# Altium footprint library IPC-SM-782 Section 11.3 SQFP_QFP-Rectangular.PcbLib: 50 footprints (part 2 of 4)
Each footprint in its own frame and in the unit in brackets; x right, y up, seen from the top. Pads: shape width x height; smd on the part's side, far side on the other; paste and mask are expansions set on the pad; w line width, h text height; cw(c..) or ccw(c..) is an arc to the next point about the centre after c.
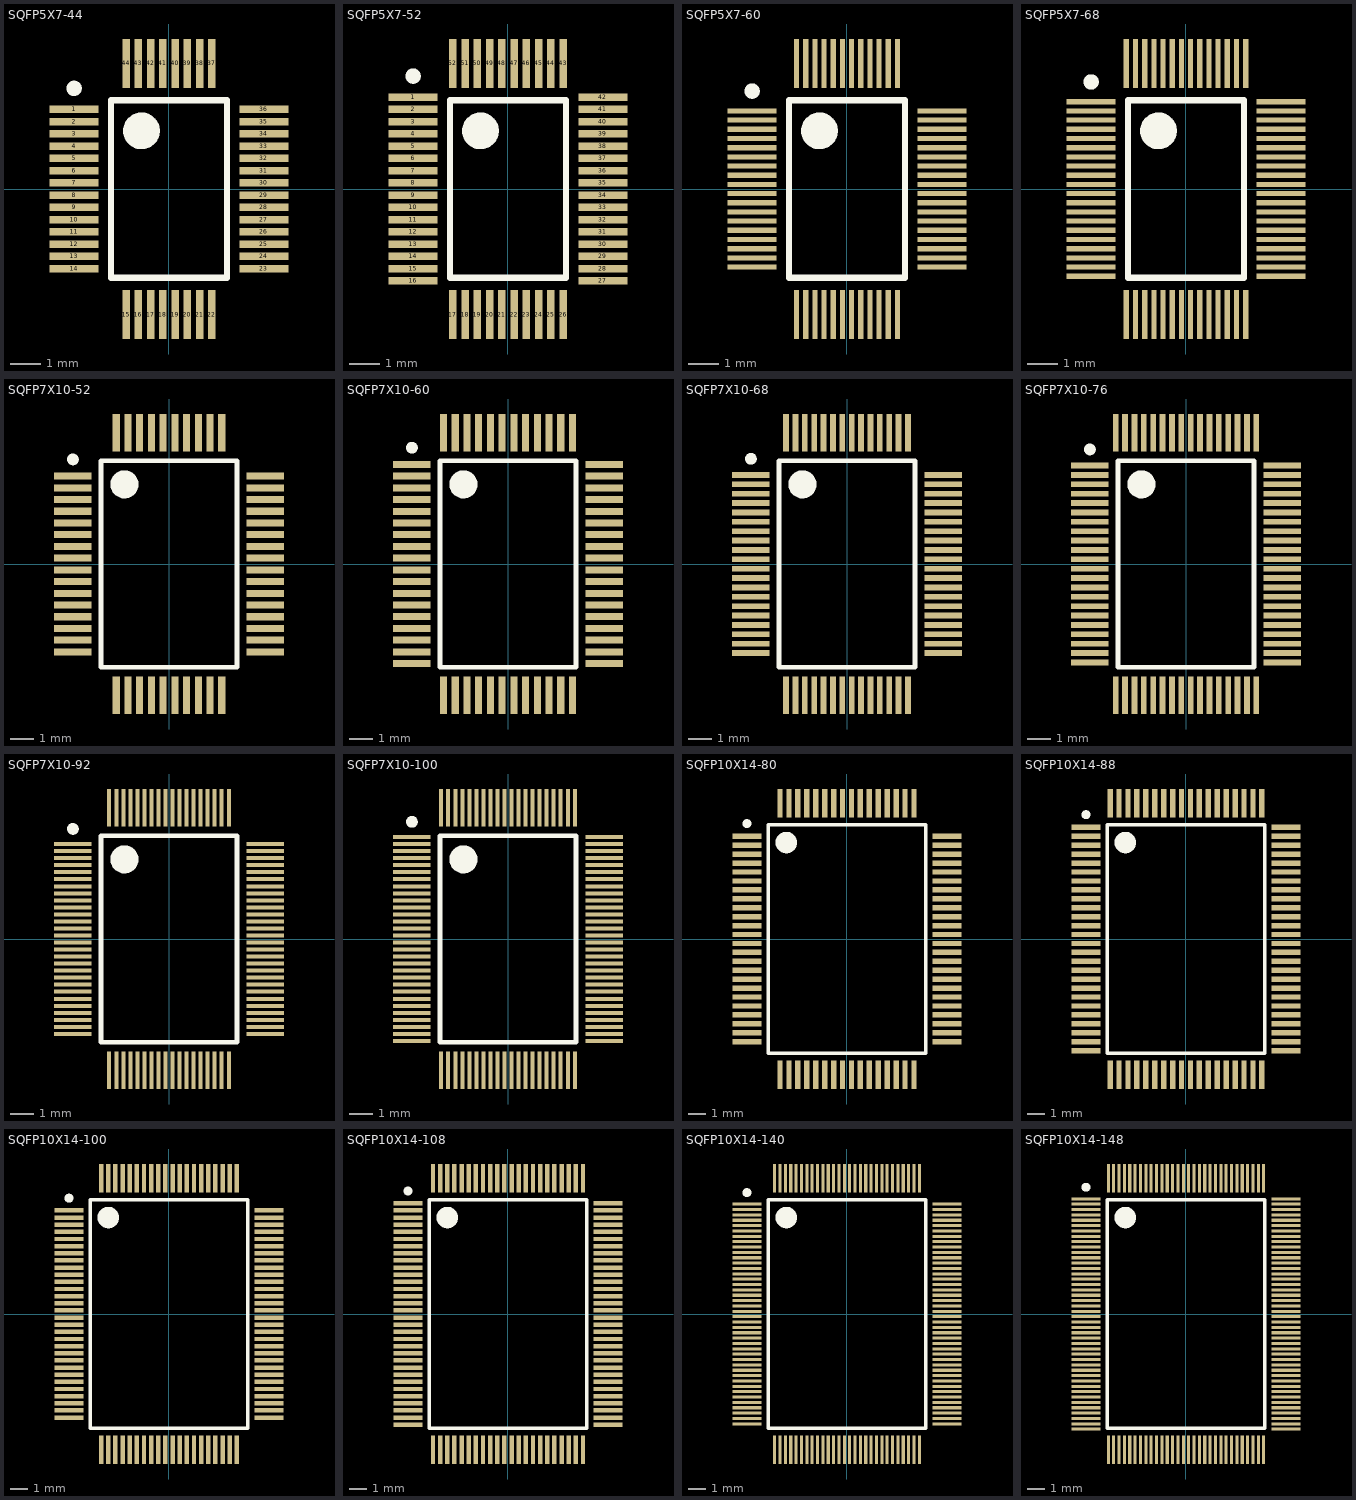
[diagram p1: the footprints below, top view; thin cyan lines are the x and y axes]

## SQFP5X7-44 [mm] "QFP; 44 Leads; Body 5 x 7 mm; Pitch 0.4 mm"
height 1.7
pads (44):
  rect 1.6x0.25 smd: 1(-3.1,2.6) 2(-3.1,2.2) 3(-3.1,1.8) 4(-3.1,1.4) 5(-3.1,1) 6(-3.1,0.6) 7(-3.1,0.2) 8(-3.1,-0.2) 9(-3.1,-0.6) 10(-3.1,-1) 11(-3.1,-1.4) 12(-3.1,-1.8) 13(-3.1,-2.2) 14(-3.1,-2.6) 23(3.1,-2.6) 24(3.1,-2.2) 25(3.1,-1.8) 26(3.1,-1.4) 27(3.1,-1) 28(3.1,-0.6) 29(3.1,-0.2) 30(3.1,0.2) 31(3.1,0.6) 32(3.1,1) 33(3.1,1.4) 34(3.1,1.8) 35(3.1,2.2) 36(3.1,2.6)
  rect 0.25x1.6 smd: 15(-1.4,-4.1) 16(-1,-4.1) 17(-0.6,-4.1) 18(-0.2,-4.1) 19(0.2,-4.1) 20(0.6,-4.1) 21(1,-4.1) 22(1.4,-4.1) 37(1.4,4.1) 38(1,4.1) 39(0.6,4.1) 40(0.2,4.1) 41(-0.2,4.1) 42(-0.6,4.1) 43(-1,4.1) 44(-1.4,4.1)
Top Overlay:
  circle w0.25: c-3.1,3.287 r0.125
  circle w0.6: c-0.9,1.9 r0.3
  lines w0.2: -1.9,-2.9 1.9,-2.9 1.9,2.9 -1.9,2.9 -1.9,-2.9

## SQFP5X7-52 [mm] "QFP; 52 Leads; Body 5 x 7 mm; Pitch 0.4 mm"
height 1.7
pads (52):
  rect 1.6x0.25 smd: 1(-3.1,3) 2(-3.1,2.6) 3(-3.1,2.2) 4(-3.1,1.8) 5(-3.1,1.4) 6(-3.1,1) 7(-3.1,0.6) 8(-3.1,0.2) 9(-3.1,-0.2) 10(-3.1,-0.6) 11(-3.1,-1) 12(-3.1,-1.4) 13(-3.1,-1.8) 14(-3.1,-2.2) 15(-3.1,-2.6) 16(-3.1,-3) 27(3.1,-3) 28(3.1,-2.6) 29(3.1,-2.2) 30(3.1,-1.8) 31(3.1,-1.4) 32(3.1,-1) 33(3.1,-0.6) 34(3.1,-0.2) 35(3.1,0.2) 36(3.1,0.6) 37(3.1,1) 38(3.1,1.4) 39(3.1,1.8) 40(3.1,2.2) 41(3.1,2.6) 42(3.1,3)
  rect 0.25x1.6 smd: 17(-1.8,-4.1) 18(-1.4,-4.1) 19(-1,-4.1) 20(-0.6,-4.1) 21(-0.2,-4.1) 22(0.2,-4.1) 23(0.6,-4.1) 24(1,-4.1) 25(1.4,-4.1) 26(1.8,-4.1) 43(1.8,4.1) 44(1.4,4.1) 45(1,4.1) 46(0.6,4.1) 47(0.2,4.1) 48(-0.2,4.1) 49(-0.6,4.1) 50(-1,4.1) 51(-1.4,4.1) 52(-1.8,4.1)
Top Overlay:
  circle w0.6: c-0.9,1.9 r0.3
  circle w0.25: c-3.1,3.688 r0.125
  lines w0.2: -1.9,-2.9 -1.9,2.9 1.9,2.9 1.9,-2.9 -1.9,-2.9

## SQFP5X7-60 [mm] "QFP; 60 Leads; Body 5 x 7 mm; Pitch 0.3 mm"
height 1.7
pads (60):
  rect 1.6x0.17 smd: 1(-3.1,2.55) 2(-3.1,2.25) 3(-3.1,1.95) 4(-3.1,1.65) 5(-3.1,1.35) 6(-3.1,1.05) 7(-3.1,0.75) 8(-3.1,0.45) 9(-3.1,0.15) 10(-3.1,-0.15) 11(-3.1,-0.45) 12(-3.1,-0.75) 13(-3.1,-1.05) 14(-3.1,-1.35) 15(-3.1,-1.65) 16(-3.1,-1.95) 17(-3.1,-2.25) 18(-3.1,-2.55) 31(3.1,-2.55) 32(3.1,-2.25) 33(3.1,-1.95) 34(3.1,-1.65) 35(3.1,-1.35) 36(3.1,-1.05) 37(3.1,-0.75) 38(3.1,-0.45) 39(3.1,-0.15) 40(3.1,0.15) 41(3.1,0.45) 42(3.1,0.75) 43(3.1,1.05) 44(3.1,1.35) 45(3.1,1.65) 46(3.1,1.95) 47(3.1,2.25) 48(3.1,2.55)
  rect 0.17x1.6 smd: 19(-1.65,-4.1) 20(-1.35,-4.1) 21(-1.05,-4.1) 22(-0.75,-4.1) 23(-0.45,-4.1) 24(-0.15,-4.1) 25(0.15,-4.1) 26(0.45,-4.1) 27(0.75,-4.1) 28(1.05,-4.1) 29(1.35,-4.1) 30(1.65,-4.1) 49(1.65,4.1) 50(1.35,4.1) 51(1.05,4.1) 52(0.75,4.1) 53(0.45,4.1) 54(0.15,4.1) 55(-0.15,4.1) 56(-0.45,4.1) 57(-0.75,4.1) 58(-1.05,4.1) 59(-1.35,4.1) 60(-1.65,4.1)
Top Overlay:
  circle w0.6: c-0.9,1.9 r0.3
  circle w0.25: c-3.1,3.197 r0.125
  lines w0.2: -1.9,-2.9 -1.9,2.9 1.9,2.9 1.9,-2.9 -1.9,-2.9

## SQFP5X7-68 [mm] "QFP; 68 Leads; Body 5 x 7 mm; Pitch 0.3 mm"
height 1.7
pads (68):
  rect 1.6x0.17 smd: 1(-3.1,2.85) 2(-3.1,2.55) 3(-3.1,2.25) 4(-3.1,1.95) 5(-3.1,1.65) 6(-3.1,1.35) 7(-3.1,1.05) 8(-3.1,0.75) 9(-3.1,0.45) 10(-3.1,0.15) 11(-3.1,-0.15) 12(-3.1,-0.45) 13(-3.1,-0.75) 14(-3.1,-1.05) 15(-3.1,-1.35) 16(-3.1,-1.65) 17(-3.1,-1.95) 18(-3.1,-2.25) 19(-3.1,-2.55) 20(-3.1,-2.85) 35(3.1,-2.85) 36(3.1,-2.55) 37(3.1,-2.25) 38(3.1,-1.95) 39(3.1,-1.65) 40(3.1,-1.35) 41(3.1,-1.05) 42(3.1,-0.75) 43(3.1,-0.45) 44(3.1,-0.15) 45(3.1,0.15) 46(3.1,0.45) 47(3.1,0.75) 48(3.1,1.05) 49(3.1,1.35) 50(3.1,1.65) 51(3.1,1.95) 52(3.1,2.25) 53(3.1,2.55) 54(3.1,2.85)
  rect 0.17x1.6 smd: 21(-1.95,-4.1) 22(-1.65,-4.1) 23(-1.35,-4.1) 24(-1.05,-4.1) 25(-0.75,-4.1) 26(-0.45,-4.1) 27(-0.15,-4.1) 28(0.15,-4.1) 29(0.45,-4.1) 30(0.75,-4.1) 31(1.05,-4.1) 32(1.35,-4.1) 33(1.65,-4.1) 34(1.95,-4.1) 55(1.95,4.1) 56(1.65,4.1) 57(1.35,4.1) 58(1.05,4.1) 59(0.75,4.1) 60(0.45,4.1) 61(0.15,4.1) 62(-0.15,4.1) 63(-0.45,4.1) 64(-0.75,4.1) 65(-1.05,4.1) 66(-1.35,4.1) 67(-1.65,4.1) 68(-1.95,4.1)
Top Overlay:
  circle w0.6: c-0.9,1.9 r0.3
  circle w0.25: c-3.1,3.497 r0.125
  lines w0.2: -1.9,-2.9 -1.9,2.9 1.9,2.9 1.9,-2.9 -1.9,-2.9

## SQFP7X10-52 [mm] "QFP; 52 Leads; Body 7 x 10 mm; Pitch 0.5 mm"
height 2.2
pads (52):
  rect 1.6x0.3 smd: 1(-4.1,3.75) 2(-4.1,3.25) 3(-4.1,2.75) 4(-4.1,2.25) 5(-4.1,1.75) 6(-4.1,1.25) 7(-4.1,0.75) 8(-4.1,0.25) 9(-4.1,-0.25) 10(-4.1,-0.75) 11(-4.1,-1.25) 12(-4.1,-1.75) 13(-4.1,-2.25) 14(-4.1,-2.75) 15(-4.1,-3.25) 16(-4.1,-3.75) 27(4.1,-3.75) 28(4.1,-3.25) 29(4.1,-2.75) 30(4.1,-2.25) 31(4.1,-1.75) 32(4.1,-1.25) 33(4.1,-0.75) 34(4.1,-0.25) 35(4.1,0.25) 36(4.1,0.75) 37(4.1,1.25) 38(4.1,1.75) 39(4.1,2.25) 40(4.1,2.75) 41(4.1,3.25) 42(4.1,3.75)
  rect 0.3x1.6 smd: 17(-2.25,-5.6) 18(-1.75,-5.6) 19(-1.25,-5.6) 20(-0.75,-5.6) 21(-0.25,-5.6) 22(0.25,-5.6) 23(0.75,-5.6) 24(1.25,-5.6) 25(1.75,-5.6) 26(2.25,-5.6) 43(2.25,5.6) 44(1.75,5.6) 45(1.25,5.6) 46(0.75,5.6) 47(0.25,5.6) 48(-0.25,5.6) 49(-0.75,5.6) 50(-1.25,5.6) 51(-1.75,5.6) 52(-2.25,5.6)
Top Overlay:
  circle w0.25: c-4.1,4.463 r0.125
  circle w0.6: c-1.9,3.4 r0.3
  lines w0.2: -2.9,-4.4 2.9,-4.4 2.9,4.4 -2.9,4.4 -2.9,-4.4

## SQFP7X10-60 [mm] "QFP; 60 Leads; Body 7 x 10 mm; Pitch 0.5 mm"
height 2.2
pads (60):
  rect 1.6x0.3 smd: 1(-4.1,4.25) 2(-4.1,3.75) 3(-4.1,3.25) 4(-4.1,2.75) 5(-4.1,2.25) 6(-4.1,1.75) 7(-4.1,1.25) 8(-4.1,0.75) 9(-4.1,0.25) 10(-4.1,-0.25) 11(-4.1,-0.75) 12(-4.1,-1.25) 13(-4.1,-1.75) 14(-4.1,-2.25) 15(-4.1,-2.75) 16(-4.1,-3.25) 17(-4.1,-3.75) 18(-4.1,-4.25) 31(4.1,-4.25) 32(4.1,-3.75) 33(4.1,-3.25) 34(4.1,-2.75) 35(4.1,-2.25) 36(4.1,-1.75) 37(4.1,-1.25) 38(4.1,-0.75) 39(4.1,-0.25) 40(4.1,0.25) 41(4.1,0.75) 42(4.1,1.25) 43(4.1,1.75) 44(4.1,2.25) 45(4.1,2.75) 46(4.1,3.25) 47(4.1,3.75) 48(4.1,4.25)
  rect 0.3x1.6 smd: 19(-2.75,-5.6) 20(-2.25,-5.6) 21(-1.75,-5.6) 22(-1.25,-5.6) 23(-0.75,-5.6) 24(-0.25,-5.6) 25(0.25,-5.6) 26(0.75,-5.6) 27(1.25,-5.6) 28(1.75,-5.6) 29(2.25,-5.6) 30(2.75,-5.6) 49(2.75,5.6) 50(2.25,5.6) 51(1.75,5.6) 52(1.25,5.6) 53(0.75,5.6) 54(0.25,5.6) 55(-0.25,5.6) 56(-0.75,5.6) 57(-1.25,5.6) 58(-1.75,5.6) 59(-2.25,5.6) 60(-2.75,5.6)
Top Overlay:
  circle w0.6: c-1.9,3.4 r0.3
  circle w0.25: c-4.1,4.963 r0.125
  lines w0.2: -2.9,-4.4 -2.9,4.4 2.9,4.4 2.9,-4.4 -2.9,-4.4

## SQFP7X10-68 [mm] "QFP; 68 Leads; Body 7 x 10 mm; Pitch 0.4 mm"
height 2.2
pads (68):
  rect 1.6x0.25 smd: 1(-4.1,3.8) 2(-4.1,3.4) 3(-4.1,3) 4(-4.1,2.6) 5(-4.1,2.2) 6(-4.1,1.8) 7(-4.1,1.4) 8(-4.1,1) 9(-4.1,0.6) 10(-4.1,0.2) 11(-4.1,-0.2) 12(-4.1,-0.6) 13(-4.1,-1) 14(-4.1,-1.4) 15(-4.1,-1.8) 16(-4.1,-2.2) 17(-4.1,-2.6) 18(-4.1,-3) 19(-4.1,-3.4) 20(-4.1,-3.8) 35(4.1,-3.8) 36(4.1,-3.4) 37(4.1,-3) 38(4.1,-2.6) 39(4.1,-2.2) 40(4.1,-1.8) 41(4.1,-1.4) 42(4.1,-1) 43(4.1,-0.6) 44(4.1,-0.2) 45(4.1,0.2) 46(4.1,0.6) 47(4.1,1) 48(4.1,1.4) 49(4.1,1.8) 50(4.1,2.2) 51(4.1,2.6) 52(4.1,3) 53(4.1,3.4) 54(4.1,3.8)
  rect 0.25x1.6 smd: 21(-2.6,-5.6) 22(-2.2,-5.6) 23(-1.8,-5.6) 24(-1.4,-5.6) 25(-1,-5.6) 26(-0.6,-5.6) 27(-0.2,-5.6) 28(0.2,-5.6) 29(0.6,-5.6) 30(1,-5.6) 31(1.4,-5.6) 32(1.8,-5.6) 33(2.2,-5.6) 34(2.6,-5.6) 55(2.6,5.6) 56(2.2,5.6) 57(1.8,5.6) 58(1.4,5.6) 59(1,5.6) 60(0.6,5.6) 61(0.2,5.6) 62(-0.2,5.6) 63(-0.6,5.6) 64(-1,5.6) 65(-1.4,5.6) 66(-1.8,5.6) 67(-2.2,5.6) 68(-2.6,5.6)
Top Overlay:
  circle w0.6: c-1.9,3.4 r0.3
  circle w0.25: c-4.1,4.488 r0.125
  lines w0.2: -2.9,-4.4 -2.9,4.4 2.9,4.4 2.9,-4.4 -2.9,-4.4

## SQFP7X10-76 [mm] "QFP; 76 Leads; Body 7 x 10 mm; Pitch 0.4 mm"
height 2.2
pads (76):
  rect 1.6x0.25 smd: 1(-4.1,4.2) 2(-4.1,3.8) 3(-4.1,3.4) 4(-4.1,3) 5(-4.1,2.6) 6(-4.1,2.2) 7(-4.1,1.8) 8(-4.1,1.4) 9(-4.1,1) 10(-4.1,0.6) 11(-4.1,0.2) 12(-4.1,-0.2) 13(-4.1,-0.6) 14(-4.1,-1) 15(-4.1,-1.4) 16(-4.1,-1.8) 17(-4.1,-2.2) 18(-4.1,-2.6) 19(-4.1,-3) 20(-4.1,-3.4) 21(-4.1,-3.8) 22(-4.1,-4.2) 39(4.1,-4.2) 40(4.1,-3.8) 41(4.1,-3.4) 42(4.1,-3) 43(4.1,-2.6) 44(4.1,-2.2) 45(4.1,-1.8) 46(4.1,-1.4) 47(4.1,-1) 48(4.1,-0.6) 49(4.1,-0.2) 50(4.1,0.2) 51(4.1,0.6) 52(4.1,1) 53(4.1,1.4) 54(4.1,1.8) 55(4.1,2.2) 56(4.1,2.6) 57(4.1,3) 58(4.1,3.4) 59(4.1,3.8) 60(4.1,4.2)
  rect 0.25x1.6 smd: 23(-3,-5.6) 24(-2.6,-5.6) 25(-2.2,-5.6) 26(-1.8,-5.6) 27(-1.4,-5.6) 28(-1,-5.6) 29(-0.6,-5.6) 30(-0.2,-5.6) 31(0.2,-5.6) 32(0.6,-5.6) 33(1,-5.6) 34(1.4,-5.6) 35(1.8,-5.6) 36(2.2,-5.6) 37(2.6,-5.6) 38(3,-5.6) 61(3,5.6) 62(2.6,5.6) 63(2.2,5.6) 64(1.8,5.6) 65(1.4,5.6) 66(1,5.6) 67(0.6,5.6) 68(0.2,5.6) 69(-0.2,5.6) 70(-0.6,5.6) 71(-1,5.6) 72(-1.4,5.6) 73(-1.8,5.6) 74(-2.2,5.6) 75(-2.6,5.6) 76(-3,5.6)
Top Overlay:
  circle w0.6: c-1.9,3.4 r0.3
  circle w0.25: c-4.1,4.888 r0.125
  lines w0.2: -2.9,-4.4 -2.9,4.4 2.9,4.4 2.9,-4.4 -2.9,-4.4

## SQFP7X10-92 [mm] "QFP; 92 Leads; Body 7 x 10 mm; Pitch 0.3 mm"
height 2.2
pads (92):
  rect 1.6x0.17 smd: 1(-4.1,4.05) 2(-4.1,3.75) 3(-4.1,3.45) 4(-4.1,3.15) 5(-4.1,2.85) 6(-4.1,2.55) 7(-4.1,2.25) 8(-4.1,1.95) 9(-4.1,1.65) 10(-4.1,1.35) 11(-4.1,1.05) 12(-4.1,0.75) 13(-4.1,0.45) 14(-4.1,0.15) 15(-4.1,-0.15) 16(-4.1,-0.45) 17(-4.1,-0.75) 18(-4.1,-1.05) 19(-4.1,-1.35) 20(-4.1,-1.65) 21(-4.1,-1.95) 22(-4.1,-2.25) 23(-4.1,-2.55) 24(-4.1,-2.85) 25(-4.1,-3.15) 26(-4.1,-3.45) 27(-4.1,-3.75) 28(-4.1,-4.05) 47(4.1,-4.05) 48(4.1,-3.75) 49(4.1,-3.45) 50(4.1,-3.15) 51(4.1,-2.85) 52(4.1,-2.55) 53(4.1,-2.25) 54(4.1,-1.95) 55(4.1,-1.65) 56(4.1,-1.35) 57(4.1,-1.05) 58(4.1,-0.75) 59(4.1,-0.45) 60(4.1,-0.15) 61(4.1,0.15) 62(4.1,0.45) 63(4.1,0.75) 64(4.1,1.05) 65(4.1,1.35) 66(4.1,1.65) 67(4.1,1.95) 68(4.1,2.25) 69(4.1,2.55) 70(4.1,2.85) 71(4.1,3.15) 72(4.1,3.45) 73(4.1,3.75) 74(4.1,4.05)
  rect 0.17x1.6 smd: 29(-2.55,-5.6) 30(-2.25,-5.6) 31(-1.95,-5.6) 32(-1.65,-5.6) 33(-1.35,-5.6) 34(-1.05,-5.6) 35(-0.75,-5.6) 36(-0.45,-5.6) 37(-0.15,-5.6) 38(0.15,-5.6) 39(0.45,-5.6) 40(0.75,-5.6) 41(1.05,-5.6) 42(1.35,-5.6) 43(1.65,-5.6) 44(1.95,-5.6) 45(2.25,-5.6) 46(2.55,-5.6) 75(2.55,5.6) 76(2.25,5.6) 77(1.95,5.6) 78(1.65,5.6) 79(1.35,5.6) 80(1.05,5.6) 81(0.75,5.6) 82(0.45,5.6) 83(0.15,5.6) 84(-0.15,5.6) 85(-0.45,5.6) 86(-0.75,5.6) 87(-1.05,5.6) 88(-1.35,5.6) 89(-1.65,5.6) 90(-1.95,5.6) 91(-2.25,5.6) 92(-2.55,5.6)
Top Overlay:
  circle w0.6: c-1.9,3.4 r0.3
  circle w0.25: c-4.1,4.698 r0.125
  lines w0.2: -2.9,-4.4 -2.9,4.4 2.9,4.4 2.9,-4.4 -2.9,-4.4

## SQFP7X10-100 [mm] "QFP; 100 Leads; Body 7 x 10 mm; Pitch 0.3 mm"
height 2.2
pads (100):
  rect 1.6x0.17 smd: 1(-4.1,4.35) 2(-4.1,4.05) 3(-4.1,3.75) 4(-4.1,3.45) 5(-4.1,3.15) 6(-4.1,2.85) 7(-4.1,2.55) 8(-4.1,2.25) 9(-4.1,1.95) 10(-4.1,1.65) 11(-4.1,1.35) 12(-4.1,1.05) 13(-4.1,0.75) 14(-4.1,0.45) 15(-4.1,0.15) 16(-4.1,-0.15) 17(-4.1,-0.45) 18(-4.1,-0.75) 19(-4.1,-1.05) 20(-4.1,-1.35) 21(-4.1,-1.65) 22(-4.1,-1.95) 23(-4.1,-2.25) 24(-4.1,-2.55) 25(-4.1,-2.85) 26(-4.1,-3.15) 27(-4.1,-3.45) 28(-4.1,-3.75) 29(-4.1,-4.05) 30(-4.1,-4.35) 51(4.1,-4.35) 52(4.1,-4.05) 53(4.1,-3.75) 54(4.1,-3.45) 55(4.1,-3.15) 56(4.1,-2.85) 57(4.1,-2.55) 58(4.1,-2.25) 59(4.1,-1.95) 60(4.1,-1.65) 61(4.1,-1.35) 62(4.1,-1.05) 63(4.1,-0.75) 64(4.1,-0.45) 65(4.1,-0.15) 66(4.1,0.15) 67(4.1,0.45) 68(4.1,0.75) 69(4.1,1.05) 70(4.1,1.35) 71(4.1,1.65) 72(4.1,1.95) 73(4.1,2.25) 74(4.1,2.55) 75(4.1,2.85) 76(4.1,3.15) 77(4.1,3.45) 78(4.1,3.75) 79(4.1,4.05) 80(4.1,4.35)
  rect 0.17x1.6 smd: 31(-2.85,-5.6) 32(-2.55,-5.6) 33(-2.25,-5.6) 34(-1.95,-5.6) 35(-1.65,-5.6) 36(-1.35,-5.6) 37(-1.05,-5.6) 38(-0.75,-5.6) 39(-0.45,-5.6) 40(-0.15,-5.6) 41(0.15,-5.6) 42(0.45,-5.6) 43(0.75,-5.6) 44(1.05,-5.6) 45(1.35,-5.6) 46(1.65,-5.6) 47(1.95,-5.6) 48(2.25,-5.6) 49(2.55,-5.6) 50(2.85,-5.6) 81(2.85,5.6) 82(2.55,5.6) 83(2.25,5.6) 84(1.95,5.6) 85(1.65,5.6) 86(1.35,5.6) 87(1.05,5.6) 88(0.75,5.6) 89(0.45,5.6) 90(0.15,5.6) 91(-0.15,5.6) 92(-0.45,5.6) 93(-0.75,5.6) 94(-1.05,5.6) 95(-1.35,5.6) 96(-1.65,5.6) 97(-1.95,5.6) 98(-2.25,5.6) 99(-2.55,5.6) 100(-2.85,5.6)
Top Overlay:
  circle w0.6: c-1.9,3.4 r0.3
  circle w0.25: c-4.1,4.998 r0.125
  lines w0.2: -2.9,-4.4 -2.9,4.4 2.9,4.4 2.9,-4.4 -2.9,-4.4

## SQFP10X14-80 [mm] "QFP; 80 Leads; Body 10 x 14 mm; Pitch 0.5 mm"
height 2.2
pads (80):
  rect 1.6x0.3 smd: 1(-5.6,5.75) 2(-5.6,5.25) 3(-5.6,4.75) 4(-5.6,4.25) 5(-5.6,3.75) 6(-5.6,3.25) 7(-5.6,2.75) 8(-5.6,2.25) 9(-5.6,1.75) 10(-5.6,1.25) 11(-5.6,0.75) 12(-5.6,0.25) 13(-5.6,-0.25) 14(-5.6,-0.75) 15(-5.6,-1.25) 16(-5.6,-1.75) 17(-5.6,-2.25) 18(-5.6,-2.75) 19(-5.6,-3.25) 20(-5.6,-3.75) 21(-5.6,-4.25) 22(-5.6,-4.75) 23(-5.6,-5.25) 24(-5.6,-5.75) 41(5.6,-5.75) 42(5.6,-5.25) 43(5.6,-4.75) 44(5.6,-4.25) 45(5.6,-3.75) 46(5.6,-3.25) 47(5.6,-2.75) 48(5.6,-2.25) 49(5.6,-1.75) 50(5.6,-1.25) 51(5.6,-0.75) 52(5.6,-0.25) 53(5.6,0.25) 54(5.6,0.75) 55(5.6,1.25) 56(5.6,1.75) 57(5.6,2.25) 58(5.6,2.75) 59(5.6,3.25) 60(5.6,3.75) 61(5.6,4.25) 62(5.6,4.75) 63(5.6,5.25) 64(5.6,5.75)
  rect 0.3x1.6 smd: 25(-3.75,-7.6) 26(-3.25,-7.6) 27(-2.75,-7.6) 28(-2.25,-7.6) 29(-1.75,-7.6) 30(-1.25,-7.6) 31(-0.75,-7.6) 32(-0.25,-7.6) 33(0.25,-7.6) 34(0.75,-7.6) 35(1.25,-7.6) 36(1.75,-7.6) 37(2.25,-7.6) 38(2.75,-7.6) 39(3.25,-7.6) 40(3.75,-7.6) 65(3.75,7.6) 66(3.25,7.6) 67(2.75,7.6) 68(2.25,7.6) 69(1.75,7.6) 70(1.25,7.6) 71(0.75,7.6) 72(0.25,7.6) 73(-0.25,7.6) 74(-0.75,7.6) 75(-1.25,7.6) 76(-1.75,7.6) 77(-2.25,7.6) 78(-2.75,7.6) 79(-3.25,7.6) 80(-3.75,7.6)
Top Overlay:
  circle w0.25: c-5.6,6.463 r0.125
  circle w0.6: c-3.4,5.4 r0.3
  lines w0.2: -4.4,-6.4 4.4,-6.4 4.4,6.4 -4.4,6.4 -4.4,-6.4

## SQFP10X14-88 [mm] "QFP; 88 Leads; Body 10 x 14 mm; Pitch 0.5 mm"
height 2.2
pads (88):
  rect 1.6x0.3 smd: 1(-5.6,6.25) 2(-5.6,5.75) 3(-5.6,5.25) 4(-5.6,4.75) 5(-5.6,4.25) 6(-5.6,3.75) 7(-5.6,3.25) 8(-5.6,2.75) 9(-5.6,2.25) 10(-5.6,1.75) 11(-5.6,1.25) 12(-5.6,0.75) 13(-5.6,0.25) 14(-5.6,-0.25) 15(-5.6,-0.75) 16(-5.6,-1.25) 17(-5.6,-1.75) 18(-5.6,-2.25) 19(-5.6,-2.75) 20(-5.6,-3.25) 21(-5.6,-3.75) 22(-5.6,-4.25) 23(-5.6,-4.75) 24(-5.6,-5.25) 25(-5.6,-5.75) 26(-5.6,-6.25) 45(5.6,-6.25) 46(5.6,-5.75) 47(5.6,-5.25) 48(5.6,-4.75) 49(5.6,-4.25) 50(5.6,-3.75) 51(5.6,-3.25) 52(5.6,-2.75) 53(5.6,-2.25) 54(5.6,-1.75) 55(5.6,-1.25) 56(5.6,-0.75) 57(5.6,-0.25) 58(5.6,0.25) 59(5.6,0.75) 60(5.6,1.25) 61(5.6,1.75) 62(5.6,2.25) 63(5.6,2.75) 64(5.6,3.25) 65(5.6,3.75) 66(5.6,4.25) 67(5.6,4.75) 68(5.6,5.25) 69(5.6,5.75) 70(5.6,6.25)
  rect 0.3x1.6 smd: 27(-4.25,-7.6) 28(-3.75,-7.6) 29(-3.25,-7.6) 30(-2.75,-7.6) 31(-2.25,-7.6) 32(-1.75,-7.6) 33(-1.25,-7.6) 34(-0.75,-7.6) 35(-0.25,-7.6) 36(0.25,-7.6) 37(0.75,-7.6) 38(1.25,-7.6) 39(1.75,-7.6) 40(2.25,-7.6) 41(2.75,-7.6) 42(3.25,-7.6) 43(3.75,-7.6) 44(4.25,-7.6) 71(4.25,7.6) 72(3.75,7.6) 73(3.25,7.6) 74(2.75,7.6) 75(2.25,7.6) 76(1.75,7.6) 77(1.25,7.6) 78(0.75,7.6) 79(0.25,7.6) 80(-0.25,7.6) 81(-0.75,7.6) 82(-1.25,7.6) 83(-1.75,7.6) 84(-2.25,7.6) 85(-2.75,7.6) 86(-3.25,7.6) 87(-3.75,7.6) 88(-4.25,7.6)
Top Overlay:
  circle w0.25: c-5.6,6.963 r0.125
  circle w0.6: c-3.4,5.4 r0.3
  lines w0.2: -4.4,-6.4 4.4,-6.4 4.4,6.4 -4.4,6.4 -4.4,-6.4

## SQFP10X14-100 [mm] "QFP; 100 Leads; Body 10 x 14 mm; Pitch 0.4 mm"
height 2.2
pads (100):
  rect 1.6x0.25 smd: 1(-5.6,5.8) 2(-5.6,5.4) 3(-5.6,5) 4(-5.6,4.6) 5(-5.6,4.2) 6(-5.6,3.8) 7(-5.6,3.4) 8(-5.6,3) 9(-5.6,2.6) 10(-5.6,2.2) 11(-5.6,1.8) 12(-5.6,1.4) 13(-5.6,1) 14(-5.6,0.6) 15(-5.6,0.2) 16(-5.6,-0.2) 17(-5.6,-0.6) 18(-5.6,-1) 19(-5.6,-1.4) 20(-5.6,-1.8) 21(-5.6,-2.2) 22(-5.6,-2.6) 23(-5.6,-3) 24(-5.6,-3.4) 25(-5.6,-3.8) 26(-5.6,-4.2) 27(-5.6,-4.6) 28(-5.6,-5) 29(-5.6,-5.4) 30(-5.6,-5.8) 51(5.6,-5.8) 52(5.6,-5.4) 53(5.6,-5) 54(5.6,-4.6) 55(5.6,-4.2) 56(5.6,-3.8) 57(5.6,-3.4) 58(5.6,-3) 59(5.6,-2.6) 60(5.6,-2.2) 61(5.6,-1.8) 62(5.6,-1.4) 63(5.6,-1) 64(5.6,-0.6) 65(5.6,-0.2) 66(5.6,0.2) 67(5.6,0.6) 68(5.6,1) 69(5.6,1.4) 70(5.6,1.8) 71(5.6,2.2) 72(5.6,2.6) 73(5.6,3) 74(5.6,3.4) 75(5.6,3.8) 76(5.6,4.2) 77(5.6,4.6) 78(5.6,5) 79(5.6,5.4) 80(5.6,5.8)
  rect 0.25x1.6 smd: 31(-3.8,-7.6) 32(-3.4,-7.6) 33(-3,-7.6) 34(-2.6,-7.6) 35(-2.2,-7.6) 36(-1.8,-7.6) 37(-1.4,-7.6) 38(-1,-7.6) 39(-0.6,-7.6) 40(-0.2,-7.6) 41(0.2,-7.6) 42(0.6,-7.6) 43(1,-7.6) 44(1.4,-7.6) 45(1.8,-7.6) 46(2.2,-7.6) 47(2.6,-7.6) 48(3,-7.6) 49(3.4,-7.6) 50(3.8,-7.6) 81(3.8,7.6) 82(3.4,7.6) 83(3,7.6) 84(2.6,7.6) 85(2.2,7.6) 86(1.8,7.6) 87(1.4,7.6) 88(1,7.6) 89(0.6,7.6) 90(0.2,7.6) 91(-0.2,7.6) 92(-0.6,7.6) 93(-1,7.6) 94(-1.4,7.6) 95(-1.8,7.6) 96(-2.2,7.6) 97(-2.6,7.6) 98(-3,7.6) 99(-3.4,7.6) 100(-3.8,7.6)
Top Overlay:
  circle w0.25: c-5.6,6.488 r0.125
  circle w0.6: c-3.4,5.4 r0.3
  lines w0.2: -4.4,-6.4 4.4,-6.4 4.4,6.4 -4.4,6.4 -4.4,-6.4

## SQFP10X14-108 [mm] "QFP; 108 Leads; Body 10 x 14 mm; Pitch 0.4 mm"
height 2.2
pads (108):
  rect 1.6x0.25 smd: 1(-5.6,6.2) 2(-5.6,5.8) 3(-5.6,5.4) 4(-5.6,5) 5(-5.6,4.6) 6(-5.6,4.2) 7(-5.6,3.8) 8(-5.6,3.4) 9(-5.6,3) 10(-5.6,2.6) 11(-5.6,2.2) 12(-5.6,1.8) 13(-5.6,1.4) 14(-5.6,1) 15(-5.6,0.6) 16(-5.6,0.2) 17(-5.6,-0.2) 18(-5.6,-0.6) 19(-5.6,-1) 20(-5.6,-1.4) 21(-5.6,-1.8) 22(-5.6,-2.2) 23(-5.6,-2.6) 24(-5.6,-3) 25(-5.6,-3.4) 26(-5.6,-3.8) 27(-5.6,-4.2) 28(-5.6,-4.6) 29(-5.6,-5) 30(-5.6,-5.4) 31(-5.6,-5.8) 32(-5.6,-6.2) 55(5.6,-6.2) 56(5.6,-5.8) 57(5.6,-5.4) 58(5.6,-5) 59(5.6,-4.6) 60(5.6,-4.2) 61(5.6,-3.8) 62(5.6,-3.4) 63(5.6,-3) 64(5.6,-2.6) 65(5.6,-2.2) 66(5.6,-1.8) 67(5.6,-1.4) 68(5.6,-1) 69(5.6,-0.6) 70(5.6,-0.2) 71(5.6,0.2) 72(5.6,0.6) 73(5.6,1) 74(5.6,1.4) 75(5.6,1.8) 76(5.6,2.2) 77(5.6,2.6) 78(5.6,3) 79(5.6,3.4) 80(5.6,3.8) 81(5.6,4.2) 82(5.6,4.6) 83(5.6,5) 84(5.6,5.4) 85(5.6,5.8) 86(5.6,6.2)
  rect 0.25x1.6 smd: 33(-4.2,-7.6) 34(-3.8,-7.6) 35(-3.4,-7.6) 36(-3,-7.6) 37(-2.6,-7.6) 38(-2.2,-7.6) 39(-1.8,-7.6) 40(-1.4,-7.6) 41(-1,-7.6) 42(-0.6,-7.6) 43(-0.2,-7.6) 44(0.2,-7.6) 45(0.6,-7.6) 46(1,-7.6) 47(1.4,-7.6) 48(1.8,-7.6) 49(2.2,-7.6) 50(2.6,-7.6) 51(3,-7.6) 52(3.4,-7.6) 53(3.8,-7.6) 54(4.2,-7.6) 87(4.2,7.6) 88(3.8,7.6) 89(3.4,7.6) 90(3,7.6) 91(2.6,7.6) 92(2.2,7.6) 93(1.8,7.6) 94(1.4,7.6) 95(1,7.6) 96(0.6,7.6) 97(0.2,7.6) 98(-0.2,7.6) 99(-0.6,7.6) 100(-1,7.6) 101(-1.4,7.6) 102(-1.8,7.6) 103(-2.2,7.6) 104(-2.6,7.6) 105(-3,7.6) 106(-3.4,7.6) 107(-3.8,7.6) 108(-4.2,7.6)
Top Overlay:
  circle w0.6: c-3.4,5.4 r0.3
  circle w0.25: c-5.6,6.888 r0.125
  lines w0.2: -4.4,-6.4 -4.4,6.4 4.4,6.4 4.4,-6.4 -4.4,-6.4

## SQFP10X14-140 [mm] "QFP; 140 Leads; Body 10 x 14 mm; Pitch 0.3 mm"
height 2.2
pads (140):
  rect 1.6x0.17 smd: 1(-5.6,6.15) 2(-5.6,5.85) 3(-5.6,5.55) 4(-5.6,5.25) 5(-5.6,4.95) 6(-5.6,4.65) 7(-5.6,4.35) 8(-5.6,4.05) 9(-5.6,3.75) 10(-5.6,3.45) 11(-5.6,3.15) 12(-5.6,2.85) 13(-5.6,2.55) 14(-5.6,2.25) 15(-5.6,1.95) 16(-5.6,1.65) 17(-5.6,1.35) 18(-5.6,1.05) 19(-5.6,0.75) 20(-5.6,0.45) 21(-5.6,0.15) 22(-5.6,-0.15) 23(-5.6,-0.45) 24(-5.6,-0.75) 25(-5.6,-1.05) 26(-5.6,-1.35) 27(-5.6,-1.65) 28(-5.6,-1.95) 29(-5.6,-2.25) 30(-5.6,-2.55) 31(-5.6,-2.85) 32(-5.6,-3.15) 33(-5.6,-3.45) 34(-5.6,-3.75) 35(-5.6,-4.05) 36(-5.6,-4.35) 37(-5.6,-4.65) 38(-5.6,-4.95) 39(-5.6,-5.25) 40(-5.6,-5.55) 41(-5.6,-5.85) 42(-5.6,-6.15) 71(5.6,-6.15) 72(5.6,-5.85) 73(5.6,-5.55) 74(5.6,-5.25) 75(5.6,-4.95) 76(5.6,-4.65) 77(5.6,-4.35) 78(5.6,-4.05) 79(5.6,-3.75) 80(5.6,-3.45) 81(5.6,-3.15) 82(5.6,-2.85) 83(5.6,-2.55) 84(5.6,-2.25) 85(5.6,-1.95) 86(5.6,-1.65) 87(5.6,-1.35) 88(5.6,-1.05) 89(5.6,-0.75) 90(5.6,-0.45) 91(5.6,-0.15) 92(5.6,0.15) 93(5.6,0.45) 94(5.6,0.75) 95(5.6,1.05) 96(5.6,1.35) 97(5.6,1.65) 98(5.6,1.95) 99(5.6,2.25) 100(5.6,2.55) 101(5.6,2.85) 102(5.6,3.15) 103(5.6,3.45) 104(5.6,3.75) 105(5.6,4.05) 106(5.6,4.35) 107(5.6,4.65) 108(5.6,4.95) 109(5.6,5.25) 110(5.6,5.55) 111(5.6,5.85) 112(5.6,6.15)
  rect 0.17x1.6 smd: 43(-4.05,-7.6) 44(-3.75,-7.6) 45(-3.45,-7.6) 46(-3.15,-7.6) 47(-2.85,-7.6) 48(-2.55,-7.6) 49(-2.25,-7.6) 50(-1.95,-7.6) 51(-1.65,-7.6) 52(-1.35,-7.6) 53(-1.05,-7.6) 54(-0.75,-7.6) 55(-0.45,-7.6) 56(-0.15,-7.6) 57(0.15,-7.6) 58(0.45,-7.6) 59(0.75,-7.6) 60(1.05,-7.6) 61(1.35,-7.6) 62(1.65,-7.6) 63(1.95,-7.6) 64(2.25,-7.6) 65(2.55,-7.6) 66(2.85,-7.6) 67(3.15,-7.6) 68(3.45,-7.6) 69(3.75,-7.6) 70(4.05,-7.6) 113(4.05,7.6) 114(3.75,7.6) 115(3.45,7.6) 116(3.15,7.6) 117(2.85,7.6) 118(2.55,7.6) 119(2.25,7.6) 120(1.95,7.6) 121(1.65,7.6) 122(1.35,7.6) 123(1.05,7.6) 124(0.75,7.6) 125(0.45,7.6) 126(0.15,7.6) 127(-0.15,7.6) 128(-0.45,7.6) 129(-0.75,7.6) 130(-1.05,7.6) 131(-1.35,7.6) 132(-1.65,7.6) 133(-1.95,7.6) 134(-2.25,7.6) 135(-2.55,7.6) 136(-2.85,7.6) 137(-3.15,7.6) 138(-3.45,7.6) 139(-3.75,7.6) 140(-4.05,7.6)
Top Overlay:
  circle w0.6: c-3.4,5.4 r0.3
  circle w0.25: c-5.6,6.797 r0.125
  lines w0.2: -4.4,-6.4 -4.4,6.4 4.4,6.4 4.4,-6.4 -4.4,-6.4

## SQFP10X14-148 [mm] "QFP; 148 Leads; Body 10 x 14 mm; Pitch 0.3 mm"
height 2.2
pads (148):
  rect 1.6x0.17 smd: 1(-5.6,6.45) 2(-5.6,6.15) 3(-5.6,5.85) 4(-5.6,5.55) 5(-5.6,5.25) 6(-5.6,4.95) 7(-5.6,4.65) 8(-5.6,4.35) 9(-5.6,4.05) 10(-5.6,3.75) 11(-5.6,3.45) 12(-5.6,3.15) 13(-5.6,2.85) 14(-5.6,2.55) 15(-5.6,2.25) 16(-5.6,1.95) 17(-5.6,1.65) 18(-5.6,1.35) 19(-5.6,1.05) 20(-5.6,0.75) 21(-5.6,0.45) 22(-5.6,0.15) 23(-5.6,-0.15) 24(-5.6,-0.45) 25(-5.6,-0.75) 26(-5.6,-1.05) 27(-5.6,-1.35) 28(-5.6,-1.65) 29(-5.6,-1.95) 30(-5.6,-2.25) 31(-5.6,-2.55) 32(-5.6,-2.85) 33(-5.6,-3.15) 34(-5.6,-3.45) 35(-5.6,-3.75) 36(-5.6,-4.05) 37(-5.6,-4.35) 38(-5.6,-4.65) 39(-5.6,-4.95) 40(-5.6,-5.25) 41(-5.6,-5.55) 42(-5.6,-5.85) 43(-5.6,-6.15) 44(-5.6,-6.45) 75(5.6,-6.45) 76(5.6,-6.15) 77(5.6,-5.85) 78(5.6,-5.55) 79(5.6,-5.25) 80(5.6,-4.95) 81(5.6,-4.65) 82(5.6,-4.35) 83(5.6,-4.05) 84(5.6,-3.75) 85(5.6,-3.45) 86(5.6,-3.15) 87(5.6,-2.85) 88(5.6,-2.55) 89(5.6,-2.25) 90(5.6,-1.95) 91(5.6,-1.65) 92(5.6,-1.35) 93(5.6,-1.05) 94(5.6,-0.75) 95(5.6,-0.45) 96(5.6,-0.15) 97(5.6,0.15) 98(5.6,0.45) 99(5.6,0.75) 100(5.6,1.05) 101(5.6,1.35) 102(5.6,1.65) 103(5.6,1.95) 104(5.6,2.25) 105(5.6,2.55) 106(5.6,2.85) 107(5.6,3.15) 108(5.6,3.45) 109(5.6,3.75) 110(5.6,4.05) 111(5.6,4.35) 112(5.6,4.65) 113(5.6,4.95) 114(5.6,5.25) 115(5.6,5.55) 116(5.6,5.85) 117(5.6,6.15) 118(5.6,6.45)
  rect 0.17x1.6 smd: 45(-4.35,-7.6) 46(-4.05,-7.6) 47(-3.75,-7.6) 48(-3.45,-7.6) 49(-3.15,-7.6) 50(-2.85,-7.6) 51(-2.55,-7.6) 52(-2.25,-7.6) 53(-1.95,-7.6) 54(-1.65,-7.6) 55(-1.35,-7.6) 56(-1.05,-7.6) 57(-0.75,-7.6) 58(-0.45,-7.6) 59(-0.15,-7.6) 60(0.15,-7.6) 61(0.45,-7.6) 62(0.75,-7.6) 63(1.05,-7.6) 64(1.35,-7.6) 65(1.65,-7.6) 66(1.95,-7.6) 67(2.25,-7.6) 68(2.55,-7.6) 69(2.85,-7.6) 70(3.15,-7.6) 71(3.45,-7.6) 72(3.75,-7.6) 73(4.05,-7.6) 74(4.35,-7.6) 119(4.35,7.6) 120(4.05,7.6) 121(3.75,7.6) 122(3.45,7.6) 123(3.15,7.6) 124(2.85,7.6) 125(2.55,7.6) 126(2.25,7.6) 127(1.95,7.6) 128(1.65,7.6) 129(1.35,7.6) 130(1.05,7.6) 131(0.75,7.6) 132(0.45,7.6) 133(0.15,7.6) 134(-0.15,7.6) 135(-0.45,7.6) 136(-0.75,7.6) 137(-1.05,7.6) 138(-1.35,7.6) 139(-1.65,7.6) 140(-1.95,7.6) 141(-2.25,7.6) 142(-2.55,7.6) 143(-2.85,7.6) 144(-3.15,7.6) 145(-3.45,7.6) 146(-3.75,7.6) 147(-4.05,7.6) 148(-4.35,7.6)
Top Overlay:
  circle w0.25: c-5.6,7.097 r0.125
  circle w0.6: c-3.4,5.4 r0.3
  lines w0.2: -4.4,-6.4 4.4,-6.4 4.4,6.4 -4.4,6.4 -4.4,-6.4